# EAGLE library part SARA-U2 (library ubloxLib)
SARA-U2: 3.75G HSPA Cellular Module u-blox.com
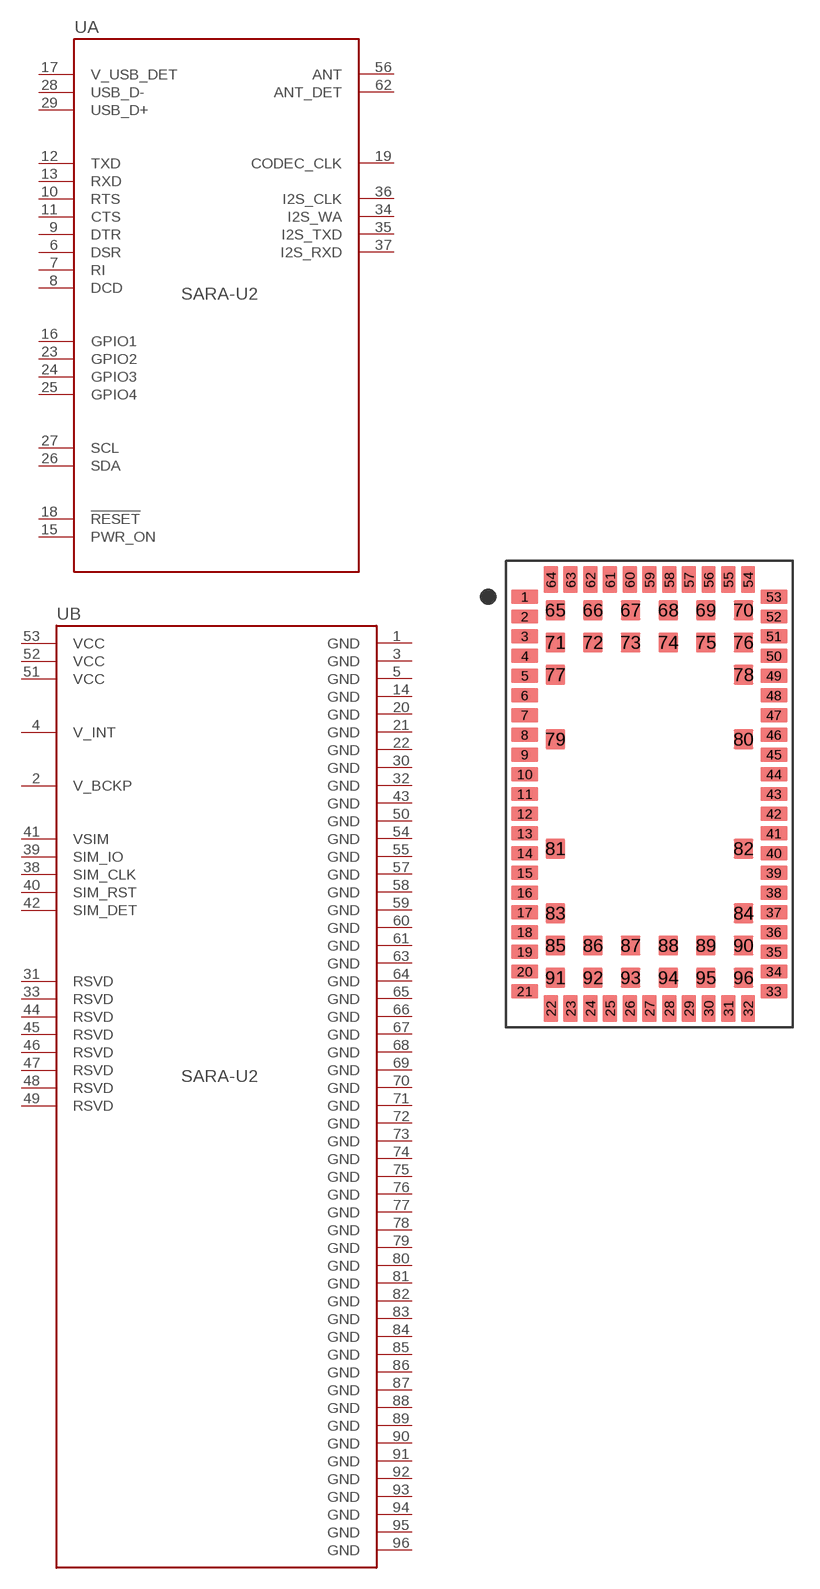
[diagram p14: symbol with the pads of SARA-96; footprint SARA-96]

Designator prefix U; gates A=SARA-XXA B=SARA-XXB

## SARA-U2  [SARA-96]
1  B:GND  pwr
2  B:V_BCKP  pwr
3  B:GND  pwr
4  B:V_INT  pwr
5  B:GND  pwr
6  A:DSR  out
7  A:RI  out
8  A:DCD  out
9  A:DTR  in
10  A:RTS  in
11  A:CTS  out
12  A:TXD  in
13  A:RXD  out
14  B:GND  pwr
15  A:PWR_ON  in
16  A:GPIO1
17  A:V_USB_DET  in
18  A:!RESET  in
19  A:CODEC_CLK  out
20  B:GND  pwr
21  B:GND  pwr
22  B:GND  pwr
23  A:GPIO2
24  A:GPIO3
25  A:GPIO4
26  A:SDA
27  A:SCL  out
28  A:USB_D-
29  A:USB_D+
30  B:GND  pwr
31  B:RSVD  nc
32  B:GND  pwr
33  B:RSVD  nc
34  A:I2S_WA
35  A:I2S_TXD  out
36  A:I2S_CLK
37  A:I2S_RXD  in
38  B:SIM_CLK  out
39  B:SIM_IO
40  B:SIM_RST  out
41  B:VSIM  pwr
42  B:SIM_DET  in
43  B:GND  pwr
44  B:RSVD  nc
45  B:RSVD  nc
46  B:RSVD  nc
47  B:RSVD  nc
48  B:RSVD  nc
49  B:RSVD  nc
50  B:GND  pwr
51  B:VCC  pwr
52  B:VCC  pwr
53  B:VCC  pwr
54  B:GND  pwr
55  B:GND  pwr
56  A:ANT
57  B:GND  pwr
58  B:GND  pwr
59  B:GND  pwr
60  B:GND  pwr
61  B:GND  pwr
62  A:ANT_DET  in
63  B:GND  pwr
64  B:GND  pwr
65  B:GND  pwr
66  B:GND  pwr
67  B:GND  pwr
68  B:GND  pwr
69  B:GND  pwr
70  B:GND  pwr
71  B:GND  pwr
72  B:GND  pwr
73  B:GND  pwr
74  B:GND  pwr
75  B:GND  pwr
76  B:GND  pwr
77  B:GND  pwr
78  B:GND  pwr
79  B:GND  pwr
80  B:GND  pwr
81  B:GND  pwr
82  B:GND  pwr
83  B:GND  pwr
84  B:GND  pwr
85  B:GND  pwr
86  B:GND  pwr
87  B:GND  pwr
88  B:GND  pwr
89  B:GND  pwr
90  B:GND  pwr
91  B:GND  pwr
92  B:GND  pwr
93  B:GND  pwr
94  B:GND  pwr
95  B:GND  pwr
96  B:GND  pwr

## Footprint SARA-96 (pad centres in mm)
SARA-XX: LGA Package 96 Pin u-blox.com
smd 1.5 x 0.8: 1 -6.95,11; 2 -6.95,9.9; 3 -6.95,8.8; 4 -6.95,7.7; 5 -6.95,6.6; 6 -6.95,5.5; 7 -6.95,4.4; 8 -6.95,3.3; 9 -6.95,2.2; 10 -6.95,1.1; 11 -6.95,0; 12 -6.95,-1.1; 13 -6.95,-2.2; 14 -6.95,-3.3; 15 -6.95,-4.4; 16 -6.95,-5.5; 17 -6.95,-6.6; 18 -6.95,-7.7; 19 -6.95,-8.8; 20 -6.95,-9.9; 21 -6.95,-11; 33 6.95,-11; 34 6.95,-9.9; 35 6.95,-8.8; 36 6.95,-7.7; 37 6.95,-6.6; 38 6.95,-5.5; 39 6.95,-4.4; 40 6.95,-3.3; 41 6.95,-2.2; 42 6.95,-1.1; 43 6.95,0; 44 6.95,1.1; 45 6.95,2.2; 46 6.95,3.3; 47 6.95,4.4; 48 6.95,5.5; 49 6.95,6.6; 50 6.95,7.7; 51 6.95,8.8; 52 6.95,9.9; 53 6.95,11
smd 0.8 x 1.5: 22 -5.5,-11.95; 23 -4.4,-11.95; 24 -3.3,-11.95; 25 -2.2,-11.95; 26 -1.1,-11.95; 27 0,-11.95; 28 1.1,-11.95; 29 2.2,-11.95; 30 3.3,-11.95; 31 4.4,-11.95; 32 5.5,-11.95; 54 5.5,11.95; 55 4.4,11.95; 56 3.3,11.95; 57 2.2,11.95; 58 1.1,11.95; 59 0,11.95; 60 -1.1,11.95; 61 -2.2,11.95; 62 -3.3,11.95; 63 -4.4,11.95; 64 -5.5,11.95
smd 1.1 x 1.1: 65 -5.25,10.25; 66 -3.15,10.25; 67 -1.05,10.25; 68 1.05,10.25; 69 3.15,10.25; 70 5.25,10.25; 71 -5.25,8.45; 72 -3.15,8.45; 73 -1.05,8.45; 74 1.05,8.45; 75 3.15,8.45; 76 5.25,8.45; 77 -5.25,6.65; 78 5.25,6.65; 79 -5.25,3.05; 80 5.25,3.05; 81 -5.25,-3.05; 82 5.25,-3.05; 83 -5.25,-6.65; 84 5.25,-6.65; 85 -5.25,-8.45; 86 -3.15,-8.45; 87 -1.05,-8.45; 88 1.05,-8.45; 89 3.15,-8.45; 90 5.25,-8.45; 91 -5.25,-10.25; 92 -3.15,-10.25; 93 -1.05,-10.25; 94 1.05,-10.25; 95 3.15,-10.25; 96 5.25,-10.25